# EAGLE library part TCD1304DG (library MRDT-2015-General)
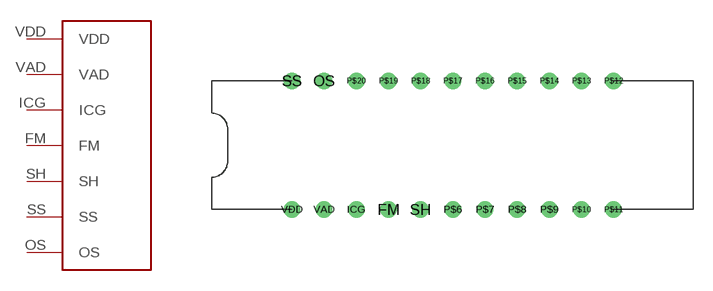
[diagram p14: symbol with the pads of CCD_PACKAGE; footprint CCD_PACKAGE]

Designator prefix -

## TCD1304DG  [CCD_PACKAGE]
FM  FM
ICG  ICG
OS  OS
SH  SH
SS  SS
VAD  VAD
VDD  VDD

## Footprint CCD_PACKAGE (pad centres in mm)
drill 0.8: FM -5.08,-3.81; ICG -7.62,-3.81; OS -10.16,6.35; P$6 0,-3.81; P$7 2.54,-3.81; P$8 5.08,-3.81; P$9 7.62,-3.81; P$10 10.16,-3.81; P$11 12.7,-3.81; P$12 12.7,6.35; P$13 10.16,6.35; P$14 7.62,6.35; P$15 5.08,6.35; P$16 2.54,6.35; P$17 0,6.35; P$18 -2.54,6.35; P$19 -5.08,6.35; P$20 -7.62,6.35; SH -2.54,-3.81; SS -12.7,6.35; VAD -10.16,-3.81; VDD -12.7,-3.81